# Altium schematic symbol library Header.SchLib: 14 symbols
Pins are listed as number, name and electrical type; pins without a type are passive.

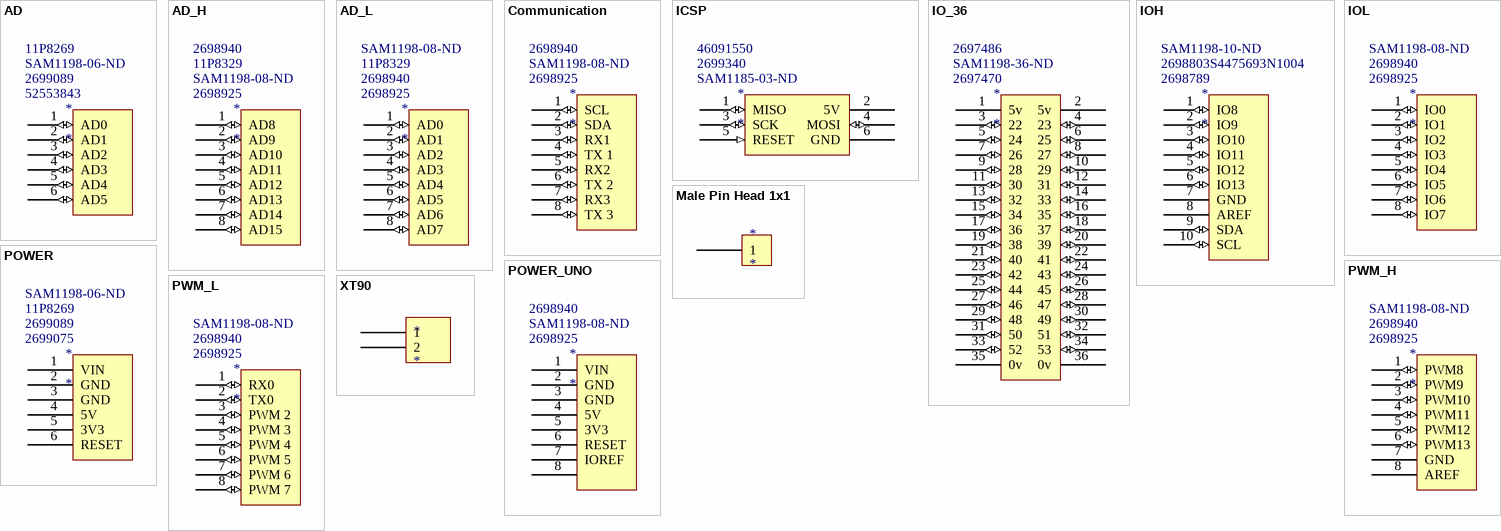
[diagram p0: symbols AD to XT90]

## AD
designator *  Supplier Part Number 1: 52553843  Supplier Part Number 2: 2699089  Supplier Part Number 3: SAM1198-06-ND  Supplier Part Number 4: 11P8269
Supplier 1: Arrow; Supplier 2: Arrow; Supplier 3: Digi-Key; Supplier 4: Newark
footprint Header 6x1 8.5mm (Stackable 6 pin header)
pins: 1 AD0 (io), 2 AD1 (io), 3 AD2 (io), 4 AD3 (io), 5 AD4 (io), 6 AD5 (io)

## AD_H
designator *  Supplier Part Number 1: 2698925  Supplier Part Number 2: SAM1198-08-ND  Supplier Part Number 3: 11P8329  Supplier Part Number 4: 2698940
Supplier 1: Arrow; Supplier 2: Digi-Key; Supplier 3: Newark; Supplier 4: Arrow
footprint Header 8x1 8.5mm (Stackable 8 pin header)
pins: 1 AD8 (io), 2 AD9 (io), 3 AD10 (io), 4 AD11 (io), 5 AD12 (io), 6 AD13 (io), 7 AD14 (io), 8 AD15 (io)

## AD_L
designator *  Supplier Part Number 1: 2698925  Supplier Part Number 2: 2698940  Supplier Part Number 3: 11P8329  Supplier Part Number 4: SAM1198-08-ND
Supplier 1: Arrow; Supplier 2: Arrow; Supplier 3: Newark; Supplier 4: Digi-Key
footprint Header 8x1 8.5mm (Stackable 8 pin header)
pins: 1 AD0 (io), 2 AD1 (io), 3 AD2 (io), 4 AD3 (io), 5 AD4 (io), 6 AD5 (io), 7 AD6 (io), 8 AD7 (io)

## Communication
designator *  Supplier Part Number 1: 2698925  Supplier Part Number 2: SAM1198-08-ND  Supplier Part Number 3: 2698940
Supplier 1: Arrow; Supplier 2: Digi-Key; Supplier 3: Arrow
footprint Header 8x1 8.5mm (Stackable 8 pin header)
pins: 1 SCL (io), 2 SDA (io), 3 RX1 (io), 4 TX 1 (io), 5 RX2 (io), 6 TX 2 (io), 7 RX3 (io), 8 TX 3 (io)

## ICSP
designator *  Supplier Part Number 1: SAM1185-03-ND  Supplier Part Number 2: 2699340  Supplier Part Number 3: 46091550
Supplier 1: Digi-Key; Supplier 2: Arrow; Supplier 3: Arrow
footprint ICSP
pins: 1 MISO (io), 2 5V (power), 3 SCK (io), 4 MOSI (io), 5 RESET (in), 6 GND (power)

## IO_36
designator *  Supplier Part Number 1: 2697470  Supplier Part Number 2: SAM1198-36-ND  Supplier Part Number 3: 2697486
Supplier 1: Arrow; Supplier 2: Digi-Key; Supplier 3: Arrow
footprint HEADER 36X 8MM (Stackable 10 pin header)
pins: 1 5v (power), 2 5v (power), 3 22 (io) "Digital 22", 4 23 (io) "Digital 23", 5 24 (io) "Digital 24", 6 25 (io) "Digital 25", 7 26 (io) "Digital 26", 8 27 (io) "Digital 27", 9 28 (io) "Digital 28", 10 29 (io) "Digital 29", 11 30 (io) "Digital 30", 12 31 (io) "Digital 31", 13 32 (io) "Digital 32", 14 33 (io) "Digital 33", 15 34 (io) "Digital 34", 16 35 (io) "Digital 35", 17 36 (io) "Digital 36", 18 37 (io) "Digital 37", 19 38 (io) "Digital 38", 20 39 (io) "Digital 39", 21 40 (io) "Digital 40", 22 41 (io) "Digital 41", 23 42 (io) "Digital 42", 24 43 (io) "Digital 43", 25 44 (io) "Digital 44", 26 45 (io) "Digital 45", 27 46 (io) "Digital 46", 28 47 (io) "Digital 47", 29 48 (io) "Digital 48", 30 49 (io) "Digital 49", 31 50 (io) "Digital 50", 32 51 (io) "Digital 51", 33 52 (io) "Digital 52", 34 53 (io) "Digital 53", 35 0v (power), 36 0v (power)

## IOH
designator *  Supplier Part Number 1: 2698789  Supplier Part Number 2: 2698803S4475693N1004  Supplier Part Number 3: SAM1198-10-ND
Supplier 1: Arrow; Supplier 2: Arrow; Supplier 3: Digi-Key
footprint Header 10x1 8.5mm (Stackable 10 pin header)
pins: 1 IO8 (io), 2 IO9 (io), 3 IO10 (io), 4 IO11 (io), 5 IO12 (io), 6 IO13 (io), 7 GND (power), 8 AREF, 9 SDA (io), 10 SCL (io)

## IOL
designator *  Supplier Part Number 1: 2698925  Supplier Part Number 2: 2698940  Supplier Part Number 3: SAM1198-08-ND
Supplier 1: Arrow; Supplier 2: Arrow; Supplier 3: Digi-Key
footprint Header 8x1 8.5mm (Stackable 8 pin header)
pins: 1 IO0 (io), 2 IO1 (io), 3 IO2 (io), 4 IO3 (io), 5 IO4 (io), 6 IO5 (io), 7 IO6 (io), 8 IO7 (io)

## Male Pin Head 1x1
designator *
footprint HEADER 1X1 8.5MM
pins: 1

## POWER
designator *  Supplier Part Number 1: 2699075  Supplier Part Number 2: 2699089  Supplier Part Number 3: 11P8269  Supplier Part Number 4: SAM1198-06-ND
Supplier 1: Arrow; Supplier 2: Arrow; Supplier 3: Newark; Supplier 4: Digi-Key
footprint Header 6x1 8.5mm (Stackable 6 pin header)
pins: 1 VIN (power), 2 GND (power), 3 GND (power), 4 5V (power), 5 3V3 (power), 6 RESET

## POWER_UNO
designator *  Supplier Part Number 1: 2698925  Supplier Part Number 2: SAM1198-08-ND  Supplier Part Number 3: 2698940
Supplier 1: Arrow; Supplier 2: Digi-Key; Supplier 3: Arrow
footprint Header 8x1 8.5mm (Stackable 8 pin header)
pins: 1 VIN (power), 2 GND (power), 3 GND (power), 4 5V (power), 5 3V3 (power), 6 RESET, 7 IOREF (power), 8

## PWM_H
designator *  Supplier Part Number 1: 2698925  Supplier Part Number 2: 2698940  Supplier Part Number 3: SAM1198-08-ND
Supplier 1: Arrow; Supplier 2: Arrow; Supplier 3: Digi-Key
footprint Header 8x1 8.5mm (Stackable 8 pin header)
pins: 1 PWM8 (io) "PWM 8", 2 PWM9 (io) "PWM 9", 3 PWM10 (io) "PWM 10", 4 PWM11 (io) "PWM 11", 5 PWM12 (io) "PWM 12", 6 PWM13 (io) "PWM 13", 7 GND (power), 8 AREF

## PWM_L
designator *  Supplier Part Number 1: 2698925  Supplier Part Number 2: 2698940  Supplier Part Number 3: SAM1198-08-ND
Supplier 1: Arrow; Supplier 2: Arrow; Supplier 3: Digi-Key
footprint Header 8x1 8.5mm (Stackable 8 pin header)
pins: 1 RX0 (io) "PWM 0 & RX0", 2 TX0 (io) "PWM 1 & TX0", 3 PWM 2 (io), 4 PWM 3 (io), 5 PWM 4 (io), 6 PWM 5 (io), 7 PWM 6 (io), 8 PWM 7 (io)

## XT90
designator *
footprint XT90
pins: 1, 2